# Altium integrated library CircuitProtection.IntLib: 1 symbol
Pins are listed as number, name and electrical type; pins without a type are passive.

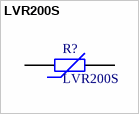
[diagram p0: symbol LVR200S]

## LVR200S
designator R?
2 amp hold, 4 amp trip polyswitch; PartNumber: LVR200S
footprint LVR200S_R18 (Footprint for LVR200S Polyswitch)
pins: 1, 2